# Altium schematic symbol library CoreBoard.SCHLIB: 24 symbols
Pins are listed as number, name and electrical type; pins without a type are passive.

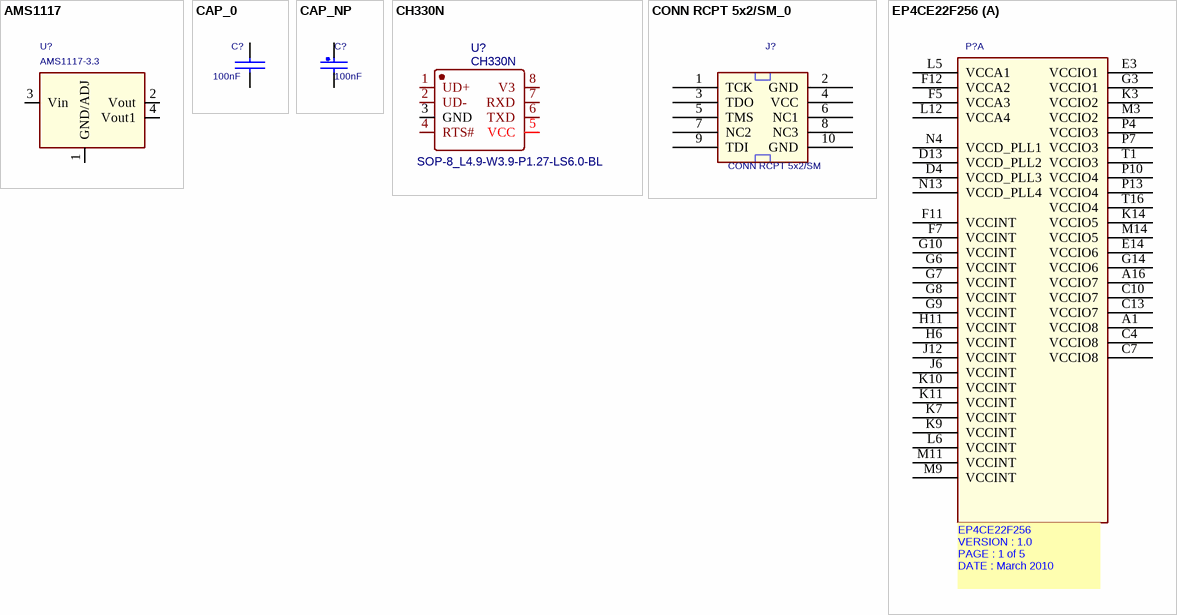
[diagram p0: symbols AMS1117 to EP4CE22F256]

## AMS1117
designator U?, comment AMS1117-3.3
footprint SOT-223
footprint SOT-223
pins: 1 GND/ADJ, 2 Vout (power), 3 Vin (power), 4 Vout1 (power)

## CAP_0
designator C?, comment 100nF
CAP CER .1UF 16V X7R 0402; MANUFACTURER: MURATA; MANUFACTURER P/N: GRM155R71C104KA88D; ROOM: PHY&FPGA; DISTRIBUTOR: DIGIKEY; PRICE: 0.00300; DIELECTRIC: X7R; DISTRIBUTOR P/N: 490-3261-1-ND
footprint 0603
footprint C0402
pins: 1, 2

## CAP_NP
designator C?, comment 100nF
CAP CER 0.1UF 6.3V 10% X5R 0201; FPLIST: CC0201,CC0201_HD,CC0201_3PIN,0201_CC; CAD_APPROVED: Yes; MFG_PN01: GRM033R60J104KE19D; MFG_NAME01: MURATA; AGILE_PN: 150-75429; HEIGHT: 0.33MM; ROHS: Yes; Tolerance: 10%
footprint C0402
pins: 1, 2

## CH330N
designator U?
BOM_Manufacturer: WCH; Package Display: Yes; BOM_Supplier: LCSC; BOM_Manufacturer Part: CH330N; BOM_Supplier Part: C108996; spicePre: U; spiceSymbolName: CH330N
footprint SOP-8_L4.9-W3.9-P1.27-LS6.0-BL
footprint SOP-8_L4.9-W3.9-P1.27-LS6.0-BL
footprint SOP-8_L4.9-W3.9-P1.27-LS6.0-BL
pins: 1 UD+, 2 UD-, 3 GND, 4 RTS#, 5 VCC, 6 TXD, 7 RXD, 8 V3
text: SOP-8_L4.9-W3.9-P1.27-LS6.0-BL

## CONN RCPT 5x2/SM_0
designator J?, comment CONN RCPT 5x2/SM
footprint DIP10-2P54-I
footprint CONN-SMD_3110-10RG0BK00A1
pins: 1 TCK, 2 GND (power), 3 TDO, 4 VCC (power), 5 TMS, 6 NC1, 7 NC2, 8 NC3, 9 TDI, 10 GND (power)

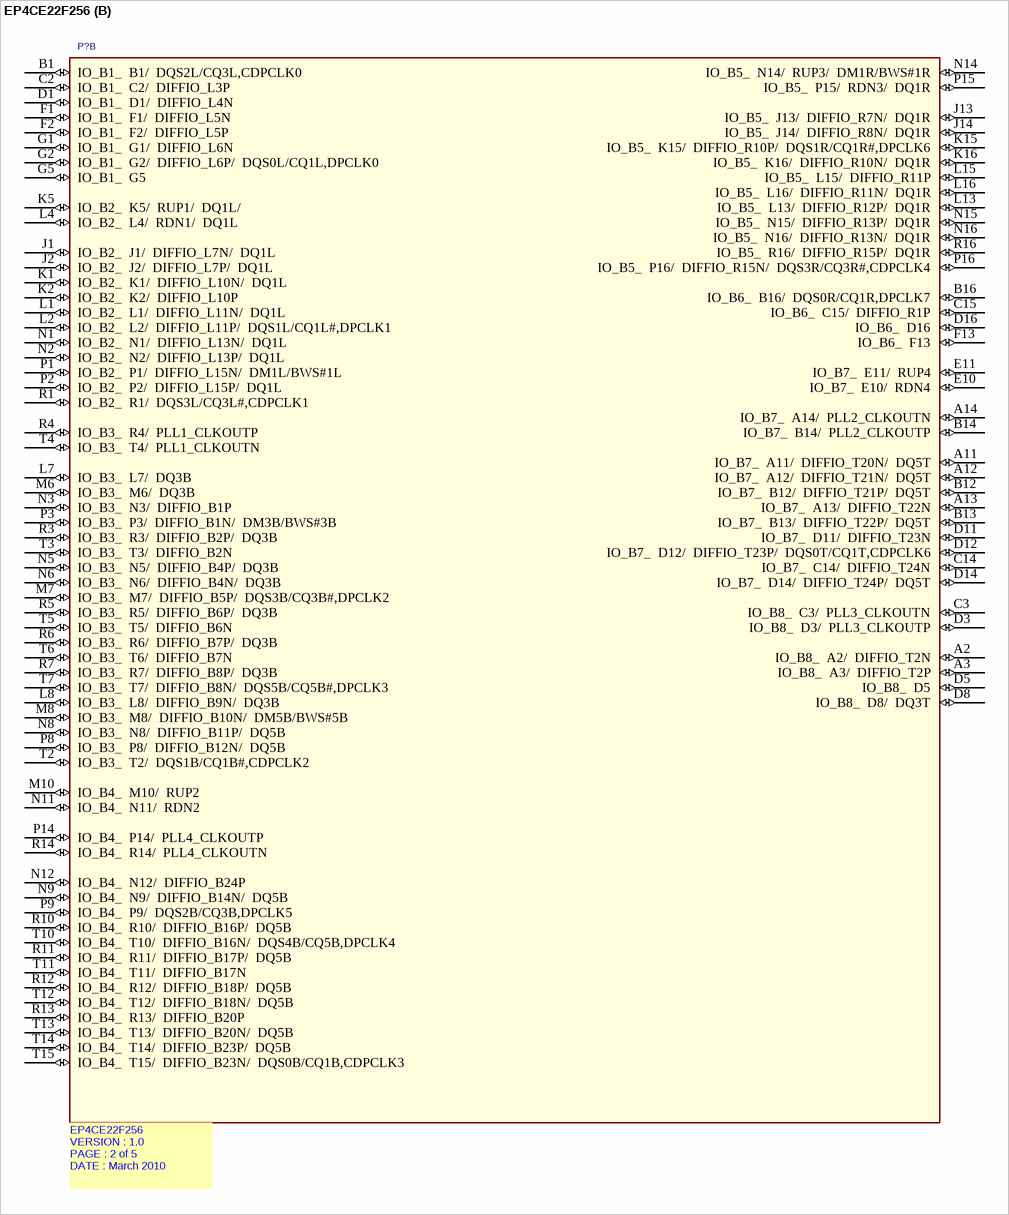
[diagram p1: symbol EP4CE22F256]

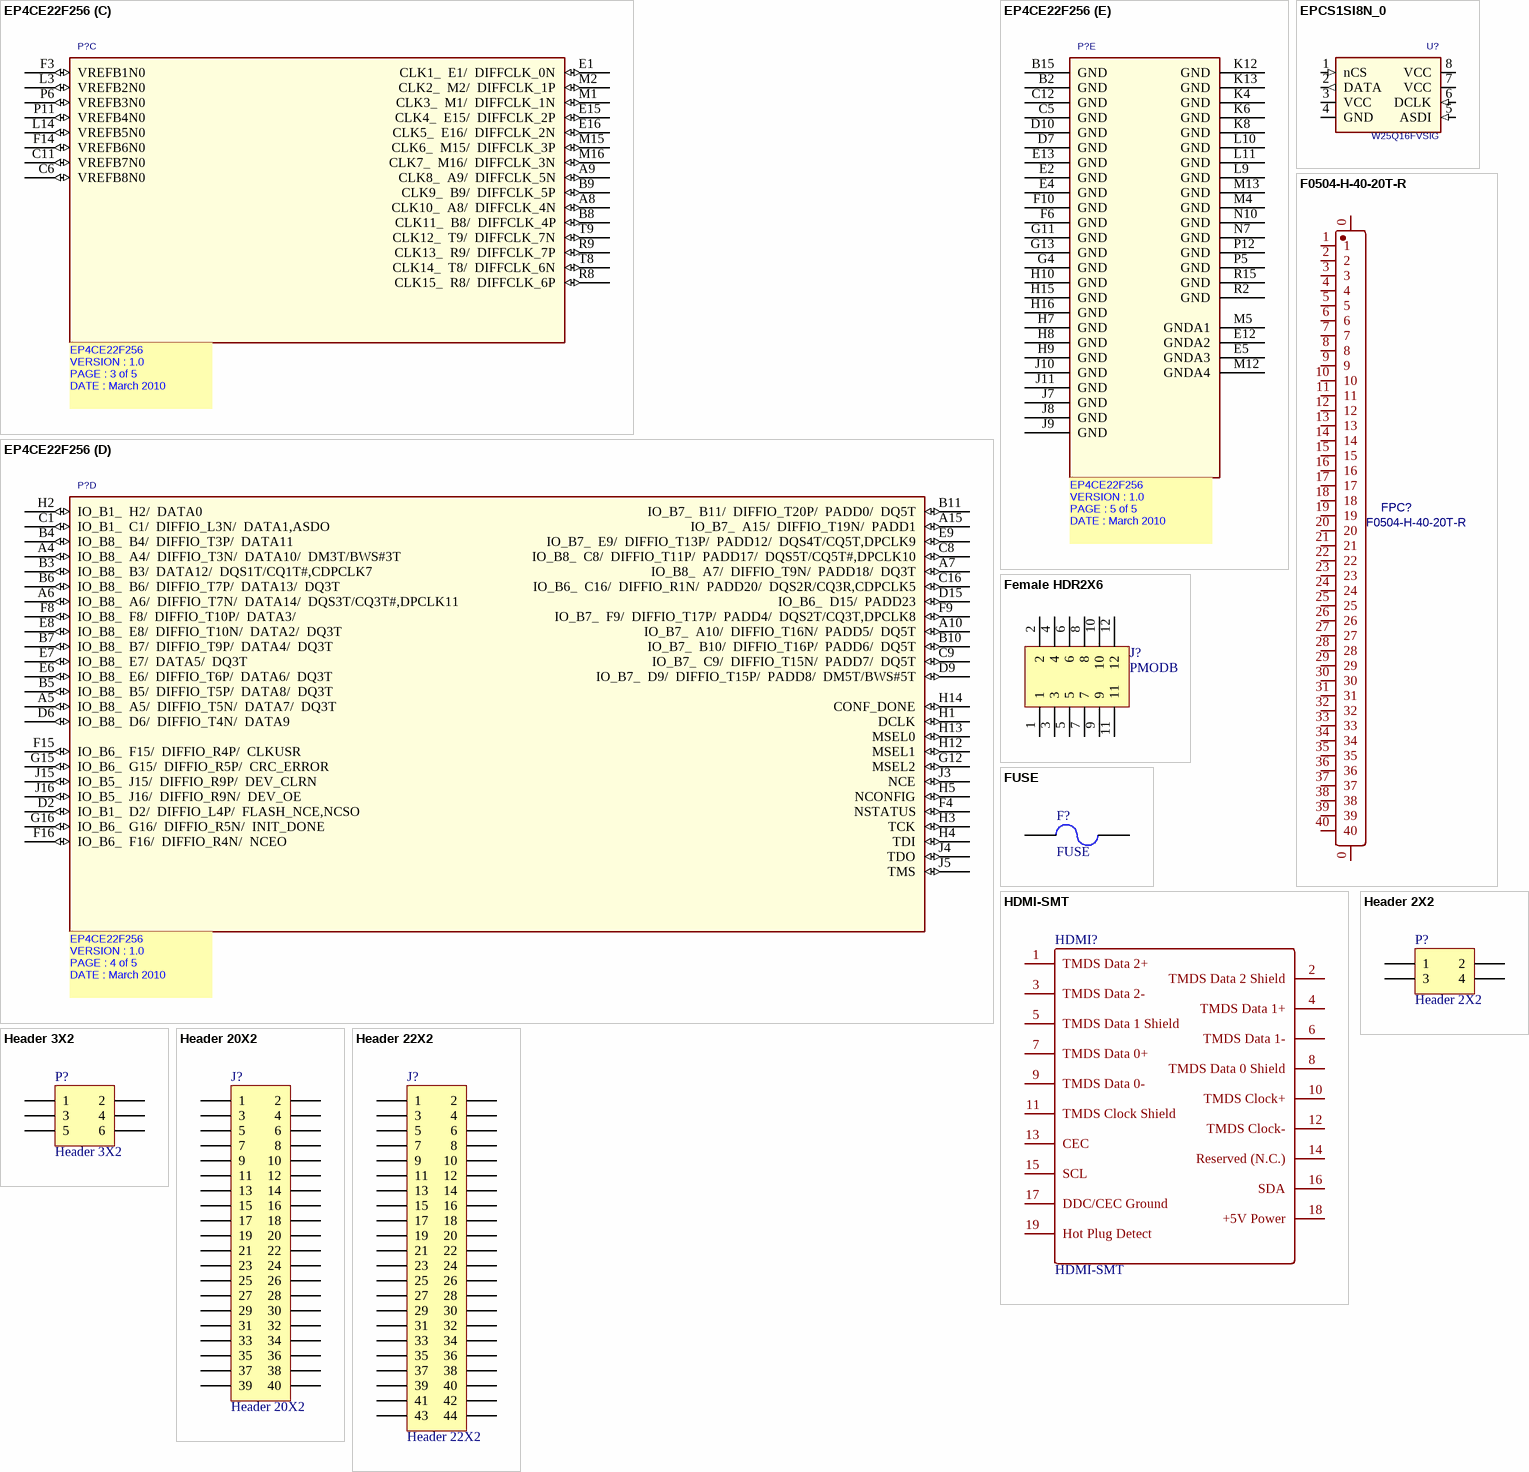
[diagram p2: symbols EP4CE22F256 to Header 22X2]

## EP4CE22F256
designator P?  (value not drawn)
SWAP_INFO: (S1+S2+S3+S4+S5); SPLIT_INST: TRUE
footprint fbga256_opt1
part A pins: A1 VCCIO8 (power), A16 VCCIO7 (power), C4 VCCIO8 (power), C7 VCCIO8 (power), C10 VCCIO7 (power), C13 VCCIO7 (power), D4 VCCD_PLL3 (power), D13 VCCD_PLL2 (power), E3 VCCIO1 (power), E14 VCCIO6 (power), F5 VCCA3 (power), F7 VCCINT (power), F11 VCCINT (power), F12 VCCA2 (power), G3 VCCIO1 (power), G6 VCCINT (power), G7 VCCINT (power), G8 VCCINT (power), G9 VCCINT (power), G10 VCCINT (power), G14 VCCIO6 (power), H6 VCCINT (power), H11 VCCINT (power), J6 VCCINT (power), J12 VCCINT (power), K3 VCCIO2 (power), K7 VCCINT (power), K9 VCCINT (power), K10 VCCINT (power), K11 VCCINT (power), K14 VCCIO5 (power), L5 VCCA1 (power), L6 VCCINT (power), L12 VCCA4 (power), M3 VCCIO2 (power), M9 VCCINT (power), M11 VCCINT (power), M14 VCCIO5 (power), N4 VCCD_PLL1 (power), N13 VCCD_PLL4 (power), P4 VCCIO3 (power), P7 VCCIO3 (power), P10 VCCIO4 (power), P13 VCCIO4 (power), T1 VCCIO3 (power), T16 VCCIO4 (power)
part B pins: A2 IO_B8_  A2/  DIFFIO_T2N (io), A3 IO_B8_  A3/  DIFFIO_T2P (io), A11 IO_B7_  A11/  DIFFIO_T20N/  DQ5T (io), A12 IO_B7_  A12/  DIFFIO_T21N/  DQ5T (io), A13 IO_B7_  A13/  DIFFIO_T22N (io), A14 IO_B7_  A14/  PLL2_CLKOUTN (io), B1 IO_B1_  B1/  DQS2L/CQ3L,CDPCLK0 (io), B12 IO_B7_  B12/  DIFFIO_T21P/  DQ5T (io), B13 IO_B7_  B13/  DIFFIO_T22P/  DQ5T (io), B14 IO_B7_  B14/  PLL2_CLKOUTP (io), B16 IO_B6_  B16/  DQS0R/CQ1R,DPCLK7 (io), C2 IO_B1_  C2/  DIFFIO_L3P (io), C3 IO_B8_  C3/  PLL3_CLKOUTN (io), C14 IO_B7_  C14/  DIFFIO_T24N (io), C15 IO_B6_  C15/  DIFFIO_R1P (io), D1 IO_B1_  D1/  DIFFIO_L4N (io), D3 IO_B8_  D3/  PLL3_CLKOUTP (io), D5 IO_B8_  D5 (io), D8 IO_B8_  D8/  DQ3T (io), D11 IO_B7_  D11/  DIFFIO_T23N (io), D12 IO_B7_  D12/  DIFFIO_T23P/  DQS0T/CQ1T,CDPCLK6 (io), D14 IO_B7_  D14/  DIFFIO_T24P/  DQ5T (io), D16 IO_B6_  D16 (io), E10 IO_B7_  E10/  RDN4 (io), E11 IO_B7_  E11/  RUP4 (io), F1 IO_B1_  F1/  DIFFIO_L5N (io), F2 IO_B1_  F2/  DIFFIO_L5P (io), F13 IO_B6_  F13 (io), G1 IO_B1_  G1/  DIFFIO_L6N (io), G2 IO_B1_  G2/  DIFFIO_L6P/  DQS0L/CQ1L,DPCLK0 (io), G5 IO_B1_  G5 (io), J1 IO_B2_  J1/  DIFFIO_L7N/  DQ1L (io), J2 IO_B2_  J2/  DIFFIO_L7P/  DQ1L (io), J13 IO_B5_  J13/  DIFFIO_R7N/  DQ1R (io), J14 IO_B5_  J14/  DIFFIO_R8N/  DQ1R (io), K1 IO_B2_  K1/  DIFFIO_L10N/  DQ1L (io), K2 IO_B2_  K2/  DIFFIO_L10P (io), K5 IO_B2_  K5/  RUP1/  DQ1L/ (io), K15 IO_B5_  K15/  DIFFIO_R10P/  DQS1R/CQ1R#,DPCLK6 (io), K16 IO_B5_  K16/  DIFFIO_R10N/  DQ1R (io), L1 IO_B2_  L1/  DIFFIO_L11N/  DQ1L (io), L2 IO_B2_  L2/  DIFFIO_L11P/  DQS1L/CQ1L#,DPCLK1 (io), L4 IO_B2_  L4/  RDN1/  DQ1L (io), L7 IO_B3_  L7/  DQ3B (io), L8 IO_B3_  L8/  DIFFIO_B9N/  DQ3B (io), L13 IO_B5_  L13/  DIFFIO_R12P/  DQ1R (io), L15 IO_B5_  L15/  DIFFIO_R11P (io), L16 IO_B5_  L16/  DIFFIO_R11N/  DQ1R (io), M6 IO_B3_  M6/  DQ3B (io), M7 IO_B3_  M7/  DIFFIO_B5P/  DQS3B/CQ3B#,DPCLK2 (io), M8 IO_B3_  M8/  DIFFIO_B10N/  DM5B/BWS#5B (io), M10 IO_B4_  M10/  RUP2 (io), N1 IO_B2_  N1/  DIFFIO_L13N/  DQ1L (io), N2 IO_B2_  N2/  DIFFIO_L13P/  DQ1L (io), N3 IO_B3_  N3/  DIFFIO_B1P (io), N5 IO_B3_  N5/  DIFFIO_B4P/  DQ3B (io), N6 IO_B3_  N6/  DIFFIO_B4N/  DQ3B (io), N8 IO_B3_  N8/  DIFFIO_B11P/  DQ5B (io), N9 IO_B4_  N9/  DIFFIO_B14N/  DQ5B (io), N11 IO_B4_  N11/  RDN2 (io), N12 IO_B4_  N12/  DIFFIO_B24P (io), N14 IO_B5_  N14/  RUP3/  DM1R/BWS#1R (io), N15 IO_B5_  N15/  DIFFIO_R13P/  DQ1R (io), N16 IO_B5_  N16/  DIFFIO_R13N/  DQ1R (io), P1 IO_B2_  P1/  DIFFIO_L15N/  DM1L/BWS#1L (io), P2 IO_B2_  P2/  DIFFIO_L15P/  DQ1L (io), P3 IO_B3_  P3/  DIFFIO_B1N/  DM3B/BWS#3B (io), P8 IO_B3_  P8/  DIFFIO_B12N/  DQ5B (io), P9 IO_B4_  P9/  DQS2B/CQ3B,DPCLK5 (io), P14 IO_B4_  P14/  PLL4_CLKOUTP (io), P15 IO_B5_  P15/  RDN3/  DQ1R (io), P16 IO_B5_  P16/  DIFFIO_R15N/  DQS3R/CQ3R#,CDPCLK4 (io), R1 IO_B2_  R1/  DQS3L/CQ3L#,CDPCLK1 (io), R3 IO_B3_  R3/  DIFFIO_B2P/  DQ3B (io), R4 IO_B3_  R4/  PLL1_CLKOUTP (io), R5 IO_B3_  R5/  DIFFIO_B6P/  DQ3B (io), R6 IO_B3_  R6/  DIFFIO_B7P/  DQ3B (io), R7 IO_B3_  R7/  DIFFIO_B8P/  DQ3B (io), R10 IO_B4_  R10/  DIFFIO_B16P/  DQ5B (io), R11 IO_B4_  R11/  DIFFIO_B17P/  DQ5B (io), R12 IO_B4_  R12/  DIFFIO_B18P/  DQ5B (io), R13 IO_B4_  R13/  DIFFIO_B20P (io), R14 IO_B4_  R14/  PLL4_CLKOUTN (io), R16 IO_B5_  R16/  DIFFIO_R15P/  DQ1R (io), T2 IO_B3_  T2/  DQS1B/CQ1B#,CDPCLK2 (io), T3 IO_B3_  T3/  DIFFIO_B2N (io), T4 IO_B3_  T4/  PLL1_CLKOUTN (io), T5 IO_B3_  T5/  DIFFIO_B6N (io), T6 IO_B3_  T6/  DIFFIO_B7N (io), T7 IO_B3_  T7/  DIFFIO_B8N/  DQS5B/CQ5B#,DPCLK3 (io), T10 IO_B4_  T10/  DIFFIO_B16N/  DQS4B/CQ5B,DPCLK4 (io), T11 IO_B4_  T11/  DIFFIO_B17N (io), T12 IO_B4_  T12/  DIFFIO_B18N/  DQ5B (io), T13 IO_B4_  T13/  DIFFIO_B20N/  DQ5B (io), T14 IO_B4_  T14/  DIFFIO_B23P/  DQ5B (io), T15 IO_B4_  T15/  DIFFIO_B23N/  DQS0B/CQ1B,CDPCLK3 (io)
part C pins: A8 CLK10_  A8/  DIFFCLK_4N (io), A9 CLK8_  A9/  DIFFCLK_5N (io), B8 CLK11_  B8/  DIFFCLK_4P (io), B9 CLK9_  B9/  DIFFCLK_5P (io), C6 VREFB8N0 (io), C11 VREFB7N0 (io), E1 CLK1_  E1/  DIFFCLK_0N (io), E15 CLK4_  E15/  DIFFCLK_2P (io), E16 CLK5_  E16/  DIFFCLK_2N (io), F3 VREFB1N0 (io), F14 VREFB6N0 (io), L3 VREFB2N0 (io), L14 VREFB5N0 (io), M1 CLK3_  M1/  DIFFCLK_1N (io), M2 CLK2_  M2/  DIFFCLK_1P (io), M15 CLK6_  M15/  DIFFCLK_3P (io), M16 CLK7_  M16/  DIFFCLK_3N (io), P6 VREFB3N0 (io), P11 VREFB4N0 (io), R8 CLK15_  R8/  DIFFCLK_6P (io), R9 CLK13_  R9/  DIFFCLK_7P (io), T8 CLK14_  T8/  DIFFCLK_6N (io), T9 CLK12_  T9/  DIFFCLK_7N (io)
part D pins: A4 IO_B8_  A4/  DIFFIO_T3N/  DATA10/  DM3T/BWS#3T (io), A5 IO_B8_  A5/  DIFFIO_T5N/  DATA7/  DQ3T (io), A6 IO_B8_  A6/  DIFFIO_T7N/  DATA14/  DQS3T/CQ3T#,DPCLK11 (io), A7 IO_B8_  A7/  DIFFIO_T9N/  PADD18/  DQ3T (io), A10 IO_B7_  A10/  DIFFIO_T16N/  PADD5/  DQ5T (io), A15 IO_B7_  A15/  DIFFIO_T19N/  PADD1 (io), B3 IO_B8_  B3/  DATA12/  DQS1T/CQ1T#,CDPCLK7 (io), B4 IO_B8_  B4/  DIFFIO_T3P/  DATA11 (io), B5 IO_B8_  B5/  DIFFIO_T5P/  DATA8/  DQ3T (io), B6 IO_B8_  B6/  DIFFIO_T7P/  DATA13/  DQ3T (io), B7 IO_B8_  B7/  DIFFIO_T9P/  DATA4/  DQ3T (io), B10 IO_B7_  B10/  DIFFIO_T16P/  PADD6/  DQ5T (io), B11 IO_B7_  B11/  DIFFIO_T20P/  PADD0/  DQ5T (io), C1 IO_B1_  C1/  DIFFIO_L3N/  DATA1,ASDO (io), C8 IO_B8_  C8/  DIFFIO_T11P/  PADD17/  DQS5T/CQ5T#,DPCLK10 (io), C9 IO_B7_  C9/  DIFFIO_T15N/  PADD7/  DQ5T (io), C16 IO_B6_  C16/  DIFFIO_R1N/  PADD20/  DQS2R/CQ3R,CDPCLK5 (io), D2 IO_B1_  D2/  DIFFIO_L4P/  FLASH_NCE,NCSO (io), D6 IO_B8_  D6/  DIFFIO_T4N/  DATA9 (io), D9 IO_B7_  D9/  DIFFIO_T15P/  PADD8/  DM5T/BWS#5T (io), D15 IO_B6_  D15/  PADD23 (io), E6 IO_B8_  E6/  DIFFIO_T6P/  DATA6/  DQ3T (io), E7 IO_B8_  E7/  DATA5/  DQ3T (io), E8 IO_B8_  E8/  DIFFIO_T10N/  DATA2/  DQ3T (io), E9 IO_B7_  E9/  DIFFIO_T13P/  PADD12/  DQS4T/CQ5T,DPCLK9 (io), F4 NSTATUS (io), F8 IO_B8_  F8/  DIFFIO_T10P/  DATA3/ (io), F9 IO_B7_  F9/  DIFFIO_T17P/  PADD4/  DQS2T/CQ3T,DPCLK8 (io), F15 IO_B6_  F15/  DIFFIO_R4P/  CLKUSR (io), F16 IO_B6_  F16/  DIFFIO_R4N/  NCEO (io), G12 MSEL2 (io), G15 IO_B6_  G15/  DIFFIO_R5P/  CRC_ERROR (io), G16 IO_B6_  G16/  DIFFIO_R5N/  INIT_DONE (io), H1 DCLK (io), H2 IO_B1_  H2/  DATA0 (io), H3 TCK (io), H4 TDI (io), H5 NCONFIG (io), H12 MSEL1 (io), H13 MSEL0 (io), H14 CONF_DONE (io), J3 NCE (io), J4 TDO (io), J5 TMS (io), J15 IO_B5_  J15/  DIFFIO_R9P/  DEV_CLRN (io), J16 IO_B5_  J16/  DIFFIO_R9N/  DEV_OE (io)
part E pins: B2 GND (power), B15 GND (power), C5 GND (power), C12 GND (power), D7 GND (power), D10 GND (power), E2 GND (power), E4 GND (power), E5 GNDA3 (power), E12 GNDA2 (power), E13 GND (power), F6 GND (power), F10 GND (power), G4 GND (power), G11 GND (power), G13 GND (power), H7 GND (power), H8 GND (power), H9 GND (power), H10 GND (power), H15 GND (power), H16 GND (power), J7 GND (power), J8 GND (power), J9 GND (power), J10 GND (power), J11 GND (power), K4 GND (power), K6 GND (power), K8 GND (power), K12 GND (power), K13 GND (power), L9 GND (power), L10 GND (power), L11 GND (power), M4 GND (power), M5 GNDA1 (power), M12 GNDA4 (power), M13 GND (power), N7 GND (power), N10 GND (power), P5 GND (power), P12 GND (power), R2 GND (power), R15 GND (power)
part A text: EP4CE22F256 / VERSION : 1.0 / PAGE : 1 of 5 / DATE : March 2010 /
part B text: EP4CE22F256 / VERSION : 1.0 / PAGE : 2 of 5 / DATE : March 2010 /
part C text: EP4CE22F256 / VERSION : 1.0 / PAGE : 3 of 5 / DATE : March 2010 /
part D text: EP4CE22F256 / VERSION : 1.0 / PAGE : 4 of 5 / DATE : March 2010 /
part E text: EP4CE22F256 / VERSION : 1.0 / PAGE : 5 of 5 / DATE : March 2010 /

## EPCS1SI8N_0
designator U?, comment W25Q16FVSIG
footprint SOIC8_1P27_208MIL
pins: 1 nCS (in), 2 DATA (out), 3 VCC (power), 4 GND (power), 5 ASDI (in), 6 DCLK (in), 7 VCC (power), 8 VCC (power)

## F0504-H-40-20T-R
designator FPC?
BOM_Manufacturer: XFCN; Contributor: LCSC; BOM_Supplier: LCSC; BOM_Supplier Part: C481240; BOM_Manufacturer Part: F0504-H-40-20T-R; BOM_JLCPCB Part Class: Extended Part; spicePre: F; spiceSymbolName: F0504-H-40-20T-R
footprint FPC-SMD_40P-P0.50_L5.8-W23.5
pins: 0, 0, 1, 2, 3, 4, 5, 6, 7, 8, 9, 10, 11, 12, 13, 14, 15, 16, 17, 18, 19, 20, 21, 22, 23, 24, 25, 26, 27, 28, 29, 30, 31, 32, 33, 34, 35, 36, 37, 38, 39, 40

## Female HDR2X6
designator J?, comment PMODB
footprint Fe-HDR2X6/2.54-S (Connector; Header; 6x2 Position)
footprint Fe-HDR2X6/2.54-SMD
footprint 2X6P RIGHT (12P双排右弯排母)
footprint 2X6P RIGHT (12P双排右弯排母)
pins: 1, 2, 3, 4, 5, 6, 7, 8, 9, 10, 11, 12

## FUSE
designator F?
footprint FUSE-1210
footprint FUSE-1812
footprint FUSE-RAD0.2
footprint FUSE-RAD
footprint 1206_
footprint 1206_
pins: 1, 2

## HDMI-SMT
designator HDMI?
footprint HDMI-SMT-19Pin
footprint Model Name (Footprint not found)
footprint HDMI-SMT-19Pin
footprint HDMI-SMT-19Pin
pins: 1 TMDS Data 2+, 2 TMDS Data 2 Shield, 3 TMDS Data 2-, 4 TMDS Data 1+, 5 TMDS Data 1 Shield, 6 TMDS Data 1-, 7 TMDS Data 0+, 8 TMDS Data 0 Shield, 9 TMDS Data 0-, 10 TMDS Clock+, 11 TMDS Clock Shield, 12 TMDS Clock-, 13 CEC, 14 Reserved (N.C.), 15 SCL, 16 SDA, 17 DDC/CEC Ground, 18 +5V Power, 19 Hot Plug Detect

## Header 2X2
designator P?
Header, 2-Pin, Dual row; LatestRevisionDate: 17-Jul-2002; LatestRevisionNote: Re-released for DXP Platform.; Publisher: Altium Limited
footprint HDR2X2 (Connector; Header; 2x2 Position)
signal-integrity model Connector
pins: 1, 2, 3, 4

## Header 3X2
designator P?
Header, 3-Pin, Dual row; LatestRevisionDate: 17-Jul-2002; LatestRevisionNote: Re-released for DXP Platform.; Publisher: Altium Limited
footprint HDR2X3 (Connector; Header; 3x2 Position)
signal-integrity model Connector
pins: 1, 2, 3, 4, 5, 6

## Header 20X2
designator J?
Header, 20-Pin, Dual row; LatestRevisionDate: 17-Jul-2002; LatestRevisionNote: Re-released for DXP Platform.; Publisher: Altium Limited
footprint HDR2X20 (Connector; Header; 20x2 Position)
signal-integrity model Connector
pins: 1, 2, 3, 4, 5, 6, 7, 8, 9, 10, 11, 12, 13, 14, 15, 16, 17, 18, 19, 20, 21, 22, 23, 24, 25, 26, 27, 28, 29, 30, 31, 32, 33, 34, 35, 36, 37, 38, 39, 40

## Header 22X2
designator J?
Header, 22-Pin, Dual row; LatestRevisionDate: 17-Jul-2002; LatestRevisionNote: Re-released for DXP Platform.; Publisher: Altium Limited
footprint HDR2X22 (Connector; Header; 22x2 Position)
signal-integrity model Connector
pins: 1, 2, 3, 4, 5, 6, 7, 8, 9, 10, 11, 12, 13, 14, 15, 16, 17, 18, 19, 20, 21, 22, 23, 24, 25, 26, 27, 28, 29, 30, 31, 32, 33, 34, 35, 36, 37, 38, 39, 40, 41, 42, 43, 44

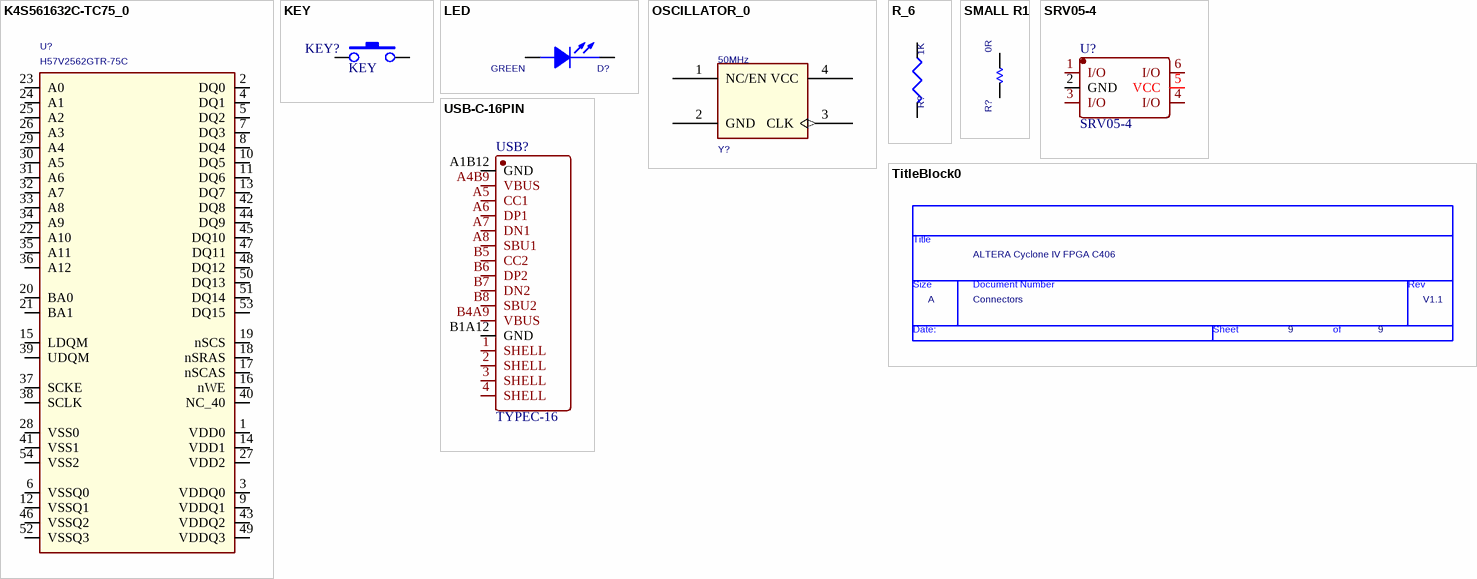
[diagram p3: symbols K4S561632C-TC75_0 to USB-C-16PIN]

## K4S561632C-TC75_0
designator U?, comment H57V2562GTR-75C
footprint TSOP54-400
footprint TSOP54-400
pins: 1 VDD0, 2 DQ0, 3 VDDQ0, 4 DQ1, 5 DQ2, 6 VSSQ0, 7 DQ3, 8 DQ4, 9 VDDQ1, 10 DQ5, 11 DQ6, 12 VSSQ1, 13 DQ7, 14 VDD1, 15 LDQM, 16 nWE, 17 nSCAS, 18 nSRAS, 19 nSCS, 20 BA0, 21 BA1, 22 A10, 23 A0, 24 A1, 25 A2, 26 A3, 27 VDD2, 28 VSS0, 29 A4, 30 A5, 31 A6, 32 A7, 33 A8, 34 A9, 35 A11, 36 A12, 37 SCKE, 38 SCLK, 39 UDQM, 40 NC_40, 41 VSS1, 42 DQ8, 43 VDDQ2, 44 DQ9, 45 DQ10, 46 VSSQ2, 47 DQ11, 48 DQ12, 49 VDDQ3, 50 DQ13, 51 DQ14, 52 VSSQ3, 53 DQ15, 54 VSS2

## KEY
designator KEY?
footprint DIP-3X6X4.3
footprint DIP-3X6X4.3_C
footprint DIP-3X6X5
footprint DIP-3X6X5_C
footprint DIP-6X6X4.3
footprint DIP-6X6X4.3_C
footprint DIP-6X6X5
footprint DIP-6X6X5_C
footprint DIP-6X6X5_C
footprint DIP-6X6X6
footprint DIP-6X6X6_C
footprint DIP-6X6X7
footprint DIP-6X6X7_C
footprint DIP-6X6X8
footprint DIP-6X6X8_C
footprint DIP-6X6X9
footprint DIP-6X6X9_C
footprint DIP-6X6X10
footprint DIP-6X6X10_C
footprint DIP-6X6X11
footprint DIP-6X6X11_C
footprint DIP-6X6X12
footprint DIP-6X6X12_C
footprint DIP-6X6X13
footprint DIP-6X6X14 (6*6*14mm)
footprint DIP-6X6X15
footprint DIP-12X12X4.3
footprint DIP-12X12X5
footprint DIP-12X12X6
footprint DIP-12X12X8
footprint DIP-12X12X9
footprint DIP-12X12X10
footprint DIP-12X12X11
footprint DIP-12X12X12
footprint DIP-12X12X13
footprint SMD-3X6X2.5
footprint SMD-3X6X4.3
footprint SMD-3X6X5
footprint SMD-4X4X1.5
footprint SMD-6X6X4.3
footprint SMD-6X6X5
footprint SMD-6X6X6
footprint SMD-6X6X7
footprint SMD-6X6X8
footprint SMD-6X6X9
footprint SMD-6X6X10
footprint SMD-6X6X11
footprint SMD-6X6X12
footprint SMD-6X6X13 (6*6*13mm)
footprint SMD-6X6X14
footprint SMD-6X6X15
footprint SMD-12X12X4.3
footprint SMD-12X12X5
footprint SMD-12X12X6
footprint SMD-12X12X7
footprint SMD-12X12X8 (12*12*8mm)
footprint SMD-12X12X9
footprint SMD-12X12X10
footprint SMD-12X12X11
footprint SMD-12X12X12 (12*12*12mm)
footprint SMD-12X12X13
footprint SMD-SW2X4
footprint SMD-3X6X2.5
footprint SMD-3X6X2.5
pins: 1, 3

## LED
designator D?, comment GREEN
ROOM: POWER
footprint Q0603
pins: 1 ANODE, 2 CATHODE

## OSCILLATOR_0
designator Y?, comment 50MHz
ROOM: PHY&FPGA
footprint OSC5X7
footprint OSC3225
pins: 1 NC/EN, 2 GND (power), 3 CLK (out), 4 VCC (power)

## R_6
designator R?, comment 1K
footprint R0402
pins: 1, 2

## SMALL R1
designator R?, comment 0R
footprint R0402
footprint R0402
pins: 1, 2

## SRV05-4
designator U?
footprint SOT23-6
footprint SOT23-6
footprint SOT23-6
pins: 1 I/O, 2 GND, 3 I/O, 4 I/O, 5 VCC, 6 I/O

## TitleBlock0
designator *?  Page Count: 9  Page Size: A  Title: ALTERA Cyclone IV FPGA C406  RevCode: V1.1  Doc: Connectors  (hidden comment: TitleBlock0)  (graphical)
Page Number: 9; Page Create Date: March  8, 1995
text: Title; Size; Document Number; Rev; Date:; Sheet; of

## USB-C-16PIN
designator USB?, comment TYPEC-16
footprint USB-C-16PIN
footprint USB-C-16PIN
footprint USB-C-16PIN
pins: 1 SHELL, 2 SHELL, 3 SHELL, 4 SHELL, A1B12 GND, A4B9 VBUS, A5 CC1, A6 DP1, A7 DN1, A8 SBU1, B1A12 GND, B4A9 VBUS, B5 CC2, B6 DP2, B7 DN2, B8 SBU2